# Altium footprint library TLP-1205.PcbLib: 1 footprints
Each footprint in its own frame and in the unit in brackets; x right, y up, seen from the top. Pads: shape width x height; smd on the part's side, far side on the other; paste and mask are expansions set on the pad; w line width, h text height; cw(c..) or ccw(c..) is an arc to the next point about the centre after c.
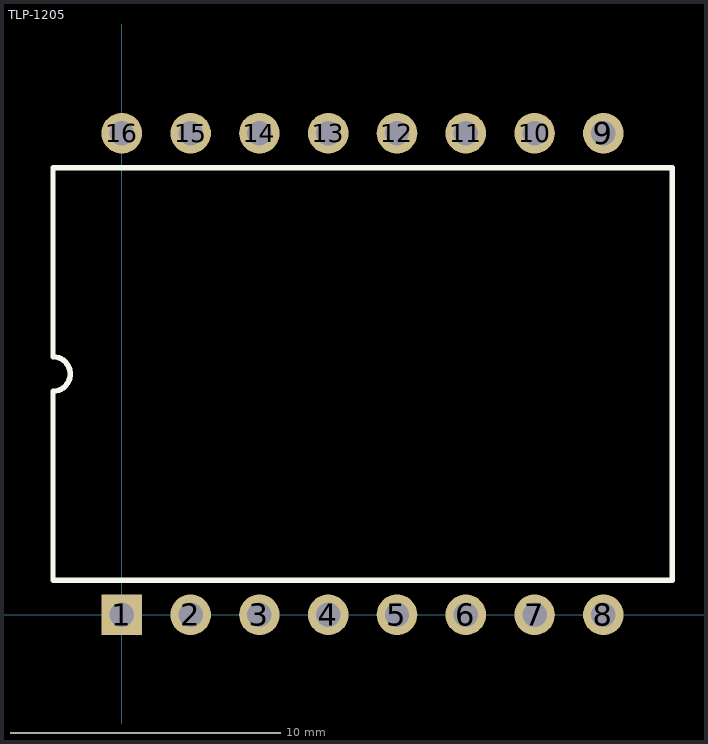
[diagram p0: the footprint, top view; thin cyan lines are the x and y axes]

## TLP-1205 [mm]
pads (16):
  rect 1.5x1.5 hole 0.9: 1(0,0)
  round 1.5 hole 0.9: 2(2.54,0) 3(5.08,0) 4(7.62,0) 5(10.16,0) 6(12.7,0) 7(15.24,0) 8(17.78,0) 9(17.78,17.78) 10(15.24,17.78) 11(12.7,17.78) 12(10.16,17.78) 13(7.62,17.78) 14(5.08,17.78) 15(2.54,17.78) 16(0,17.78)
Top Overlay:
  lines w0.2: -2.54,1.27 -2.54,8.255 ccw(c-2.54,8.89) -2.54,9.525 -2.54,16.51 20.32,16.51 20.32,1.27 -2.54,1.27